# Altium schematic symbol library zxevo_c2.SchLib: 76 symbols (part 2 of 2)
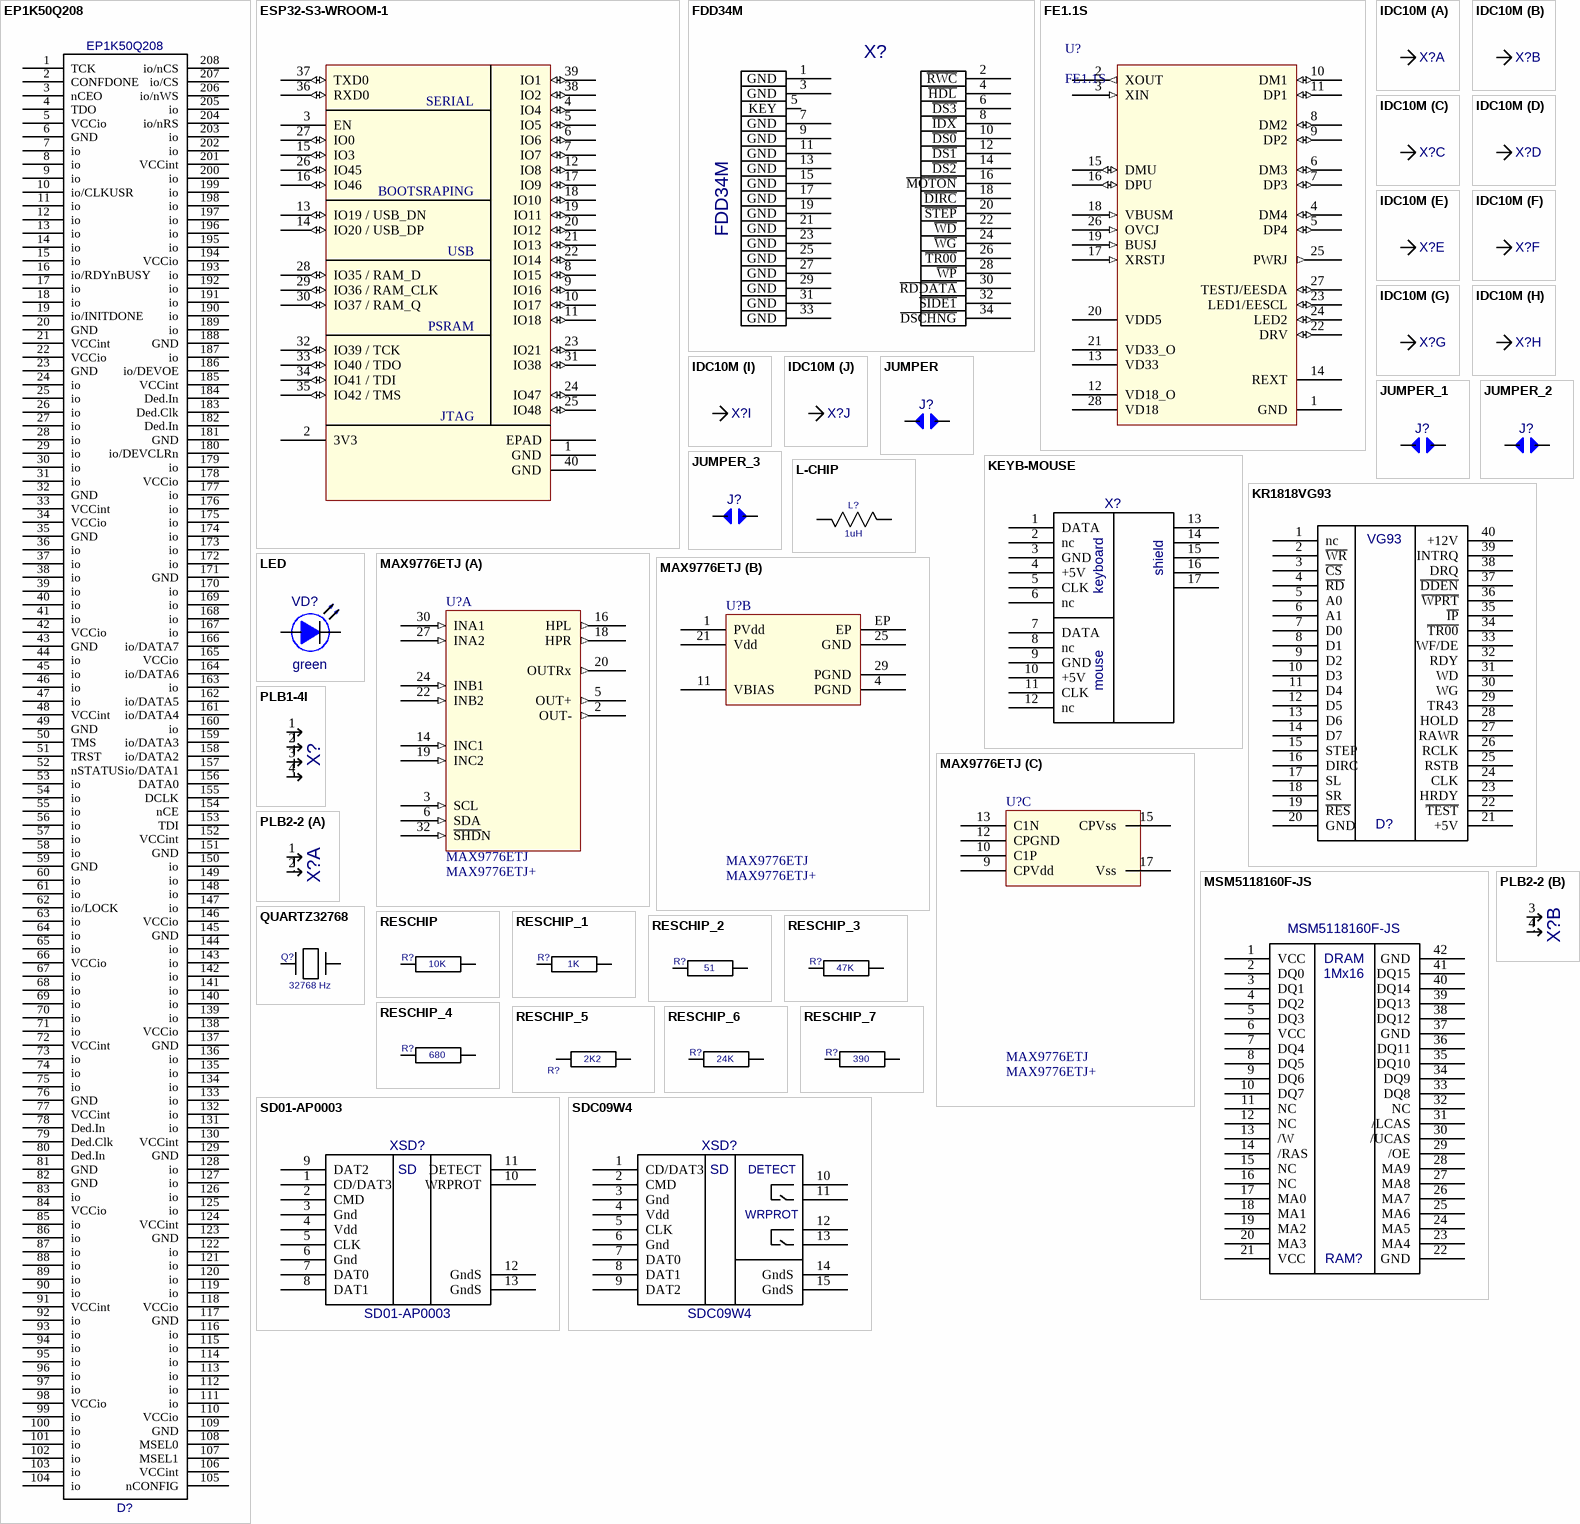
[diagram p4: symbols EP1K50Q208 to SDC09W4]

## FE1.1S
designator U?
USB 2.0 HIGH SPEED 4-PORT HUB CONTROLLER; Manufacturer: Terminus Technology Inc; ComponentLink1Description: Datasheet; ComponentLink1URL: http://www.ibselectronics.com/ibsstore/datasheet/FE1.1s%20(B)%20Data%20Sheet%200.7.pdf; PACKAGE: 28-pin SSOP (Body Size: 10x4 mm, Pitch: 0.64mm)
footprint TSOP64P600X160-28L (TSOP, 28-Leads, Body 9,90x3,90mm, Pitch 0,64mm, IPC High Density)
pins: 1 GND (power) "Ground", 2 XOUT (out) "12 MHz Crystal Oscillator output", 3 XIN (in) "12 MHz Crystal Oscillator input.", 4 DM4 (io) "The D- pin of the 4th Downstream Facing Port.", 5 DP4 (io) "The D+ pin of the 4th Downstream Facing Port", 6 DM3 (io) "The D- pin of the 3rd Downstream Facing Port.", 7 DP3 (io) "The D+ pin of the 3rd Downstream Facing Port.", 8 DM2 (io) "The D- pin of the 2nd Downstream Facing Port.", 9 DP2 (io) "The D+ pin of the 2nd Downstream Facing Port.", 10 DM1 (io) "The D- pin of the 1st Downstream Facing Port.", 11 DP1 (io) "The D+ pin of the 1st Downstream Facing Port.", 12 VD18_O (power) "1.8V power output from 3.3V→1.8V integrated regulator – a 10μF decoupling capacitor is required.", 13 VD33 (power) "3.3V power input for 3.3V→1.8V integrated regulator.", 14 REXT (power) "A 2.7KΩ (± 1%) resister should be connected to VSS to provide internal bias reference.", 15 DMU (io) "The D- pin of the Upstream Facing Port.", 16 DPU (io) "The D+ pin of the Upstream Facing Port.", 17 XRSTJ (in) "External Reset, active low, is an optional source of chip reset signal, beside the build-in Power-On-Reset. The minimum low pulse width is 10 μs.", 18 VBUSM (in) "The VBUS Monitor of upstream facing port.", 19 BUSJ (in) "Bus power indicator: 0 – Bus Powered; 1 – Self Powered.", 20 VDD5 (power) "5V power input for integrated 5V→3.3V regulator.", 21 VD33_O (power) "3.3V power output from 5V→3.3V integrated regulator – a 10μF decoupling capacitor is required.", 22 DRV (io) "LED Drive Control", 23 LED1/EESCL (io) "Port 1 and Port 3 Enabled Indicator (LED) Control, and external Serial EEPROM Clock", 24 LED2 (io) "Port 2 and Port 4 Enabled Indicator (LED) Control", 25 PWRJ (out) "Downstream Device Power Enable, active low, for Ganged Power Switching.", 26 OVCJ (in) "Over Current Indicator, active low, for Global Over-Current", 27 TESTJ/EESDA (io) "Test Mode Enable, active low with internal pull-up, and external Serial EEPROM Data/Address.", 28 VD18 (power) "1.8V power input."

## IDC10M
designator X?  (value not drawn)
Value: *
footprint IDC10M
part A pins: 1
part B pins: 2
part C pins: 3
part D pins: 4
part E pins: 5
part F pins: 6
part G pins: 7
part H pins: 8
part I pins: 9
part J pins: 10

## JUMPER
designator J?  (value not drawn)
Hard Reset Key; Value: *
footprint JUMPER
pins: 0 1, 1 2

## JUMPER_1
designator J?, comment JUMPER  (value not drawn)
HLT->~IP
footprint JUMPER
pins: 0 1, 1 2

## JUMPER_2
designator J?, comment JUMPER  (value not drawn)
12V enabled; Value: *
footprint JUMPER
pins: 0 1, 1 2

## JUMPER_3
designator J?, comment JUMPER  (value not drawn)
Soft Reset Key
footprint JUMPER
pins: 0 1, 1 2

## KEYB-MOUSE
designator X?  (value not drawn)
Value: *
footprint MDD-6FR
pins: 1 DATA, 2 nc, 3 GND, 4 +5V, 5 CLK, 6 nc, 7 DATA, 8 nc, 9 GND, 10 +5V, 11 CLK, 12 nc, 13 shield, 14 shield, 15 shield, 16 shield, 17 shield
text: keyboard; mouse

## KR1818VG93
designator D?  (value not drawn)
Value: *
footprint DIP40
pins: 1 nc, 2 ~{WR}, 3 ~{CS}, 4 ~{RD}, 5 A0, 6 A1, 7 D0, 8 D1, 9 D2, 10 D3, 11 D4, 12 D5, 13 D6, 14 D7, 15 STEP, 16 DIRC, 17 SL, 18 SR, 19 ~{RES}, 20 GND, 21 +5V, 22 ~{TEST}, 23 HRDY, 24 CLK, 25 RSTB, 26 RCLK, 27 RAWR, 28 HOLD, 29 TR43, 30 WG, 31 WD, 32 RDY, 33 WF/DE, 34 ~{TR00}, 35 ~{IP}, 36 ~{WPRT}, 37 ~{DDEN}, 38 DRQ, 39 INTRQ, 40 +12V
text: VG93

## L-CHIP
designator L?  value 1uH  (hidden comment: L-CHIP)
footprint L-CHIP
pins: 1, 2

## LED
designator VD?  value green  (hidden comment: LED)
Light Emitting Diode
footprint LED100
pins: A, K

## MAX9776ETJ
designator U?  Supplier Part Number 1: MAX9776ETJ+
Audio Amp Headphone/Receiver/Speaker 1-CH Mono/2-CH Stereo 1.5W Class-D 32-Pin TQFN EP; Manufacturer: Maxim; Voltage Gain: 12dB; Min Dual Supply Voltage: 2.7V; Max Dual Supply Voltage: 5.5V; Power Supply Rejection Ratio (PSRR): 80dB; Common Mode Rejection Ratio: 45dB; Max Power Dissipation: 1.36W; Nominal Supply Current: 9.5mA; Dual Supply Voltage: 5V; Supply Type: Triple; Gain Bandwidth Product: 20kHz; Manufacturer Part Number: MAX9776ETJ+; RoHS: Yes; Category: Amplifiers - Audio; Stock 1: 240; Mount: Surface Mount; Number of Pins: 32; Min Operating Temperature: -40°C; Max Operating Temperature: 85°C; Packaging: Rail/Tube; Max Output Power: 1.5W; Package Quantity: 1; Logic Function: Receiver; Features: I²C; Output Power: 1.5W; Max Supply Voltage: 5.5V; Min Supply Voltage: 2.7V; Series: DirectDrive®; Supply Current: 9.5mA; Length: 5.1mm; Width: 5.1mm; Height: 0.75mm; Radiation Hardening: No; RoHS Compliant: Yes; ComponentLink1URL: https://datasheet.ciiva.com/1790/max9775-max9776-1790309.pdf?src-supplier=Digi-Key; ComponentLink1Description: https://datasheet.ciiva.com/1790/max9775-max9776-1790309.pdf?src-supplier=Digi-Key; ComponentLink2URL: https://datasheet.ciiva.com/17309/max9775-max9776-17309659.pdf?src-supplier=Avnet+Europe; ComponentLink2Description: https://datasheet.ciiva.com/17309/max9775-max9776-17309659.pdf?src-supplier=Avnet+Europe; ComponentLink3URL: https://datasheet.ciiva.com/2967/max9775-max9776-2967997.pdf?src-supplier=Avnet; ComponentLink3Description: https://datasheet.ciiva.com/2967/max9775-max9776-2967997.pdf?src-supplier=Avnet
footprint QFN50P500X500X75_HS-33M (QFN, 32-Leads, Body 5,00x5,00mm, Pitch 0,50mm, Thermal Pad 3,10x3,10mm, IPC Low Density)
part A pins: 2 OUT- (out) "Negative Left-Speaker Output", 3 SCL (in) "Serial Clock Input. Connect a 1kΩ pullup resistor from SCL to VDD.", 5 OUT+ (out) "Positive Left-Speaker Output", 6 SDA (in) "Serial Data Input. Connect a 1kΩ pullup resistor from SDA to VDD.", 7 I.C. hidden "Internal Connection. Leave unconnected. This pin is internally connected to the signal path.", 8 I.C. hidden "Internal Connection. Leave unconnected. This pin is internally connected to the signal path.", 14 INC1 (in) "Input C1. Left input or positive input", 16 HPL (out) "Left Headphone Output", 18 HPR (out) "Right Headphone Output", 19 INC2 (in) "Input C2. Right input or negative input", 20 OUTRx (out) "Mono Receiver Output", 22 INB2 (in) "Input B2. Right input or negative input", 23 I.C. hidden "Internal Connection. Leave unconnected. This pin is internally connected to the signal path.", 24 INB1 (in) "Input B1. Left input or positive input", 26 I.C. hidden "Internal Connection. Leave unconnected. This pin is internally connected to the signal path.", 27 INA2 (in) "Input A2. Right input or negative input", 28 I.C. hidden "Internal Connection. Leave unconnected. This pin is internally connected to the signal path.", 30 INA1 (in) "Input A1. Left input or positive input", 31 I.C. hidden "Internal Connection. Leave unconnected. This pin is internally connected to the signal path.", 32 ~{SHD}N (in) "Active-Low Hardware Shutdown"
part B pins: 1 PVdd (power) "Class D Power Supply", 4 PGND (power) "Power Ground", 11 VBIAS (power) "Common-Mode Bias", 21 Vdd (power) "Analog Power Supply", 25 GND (power) "Analog Ground", 29 PGND (power) "Power Ground", EP (power) "Exposed Pad. The external pad lowers the package’s thermal impedance by providing a direct heat conduction path from the die to the PCB. The exposed pad is internally connected to GND. Connect the exposed thermal pad to the GND plane."
part C pins: 9 CPVdd (power) "Charge-Pump Power Supply", 10 C1P (power) "Charge-Pump Flying Capacitor Positive Terminal", 12 CPGND (power) "Charge-Pump GND", 13 C1N (power) "Charge-Pump Flying Capacitor Negative Terminal", 15 CPVss (power) "Charge-Pump Output. Connect to VSS.", 17 Vss (power) "Headphone Amplifier Negative Power Supply. Connect to CPVSS."

## MSM5118160F-JS
designator RAM?
Value: *
footprint SOJ42
pins: 1 VCC, 2 DQ0, 3 DQ1, 4 DQ2, 5 DQ3, 6 VCC, 7 DQ4, 8 DQ5, 9 DQ6, 10 DQ7, 11 NC, 12 NC, 13 /W, 14 /RAS, 15 NC, 16 NC, 17 MA0, 18 MA1, 19 MA2, 20 MA3, 21 VCC, 22 GND, 23 MA4, 24 MA5, 25 MA6, 26 MA7, 27 MA8, 28 MA9, 29 /OE, 30 /UCAS, 31 /LCAS, 32 NC, 33 DQ8, 34 DQ9, 35 DQ10, 36 DQ11, 37 GND, 38 DQ12, 39 DQ13, 40 DQ14, 41 DQ15, 42 GND
text: DRAM; 1Mx16

## PLB1-4I
designator X?  (value not drawn)
Value: *
footprint PLB1-4I
pins: 1 I/O1, 2 I/O2, 3 I/O3, 4 I/O4

## PLB2-2
designator X?  (value not drawn)
Value: *
footprint PLB2-2
part A pins: 1, 2
part B pins: 3 1, 4 2

## QUARTZ32768
designator Q?  value 32768 Hz  (hidden comment: QUARTZ32768)
footprint 32768
pins: 1, 2, 3 GND (power) hidden to GND

## RESCHIP
designator R?  value 10K  (hidden comment: RESCHIP)
footprint R-CHIP
pins: 1 i/o, 2 i/o1

## RESCHIP_1
designator R?, comment value 1K  (hidden comment: RESCHIP)
footprint R-CHIP
pins: 1 i/o, 2 i/o1

## RESCHIP_2
designator R?, comment value 51  (hidden comment: RESCHIP)
footprint R-CHIP
pins: 1 i/o, 2 i/o1

## RESCHIP_3
designator R?, comment value 47K  (hidden comment: RESCHIP)
footprint R-CHIP
pins: 1 i/o, 2 i/o1

## RESCHIP_4
designator R?, comment value 680  (hidden comment: RESCHIP)
footprint R-CHIP
pins: 1 i/o, 2 i/o1

## RESCHIP_5
designator R?, comment value 2K2  (hidden comment: RESCHIP)
footprint R-CHIP
pins: 1 i/o, 2 i/o1

## RESCHIP_6
designator R?, comment value 24K  (hidden comment: RESCHIP)
footprint R-CHIP
pins: 1 i/o, 2 i/o1

## RESCHIP_7
designator R?, comment value 390  (hidden comment: RESCHIP)
footprint R-CHIP
pins: 1 i/o, 2 i/o1

## SD01-AP0003
designator XSD?
Value: *
footprint SD01-AP0003
pins: 1 CD/DAT3, 2 CMD, 3 Gnd, 4 Vdd, 5 CLK, 6 Gnd, 7 DAT0, 8 DAT1, 9 DAT2, 10 WRPROT, 11 DETECT, 12 GndS, 13 GndS, 14 hidden, 15 hidden
text: SD

## SDC09W4
designator XSD?
Value: *
footprint SDC09W4
pins: 1 CD/DAT3, 2 CMD, 3 Gnd, 4 Vdd, 5 CLK, 6 Gnd, 7 DAT0, 8 DAT1, 9 DAT2, 10 DETECT, 11 DETECT, 12 WRPROT, 13 WRPROT, 14 GndS, 15 GndS
text: SD

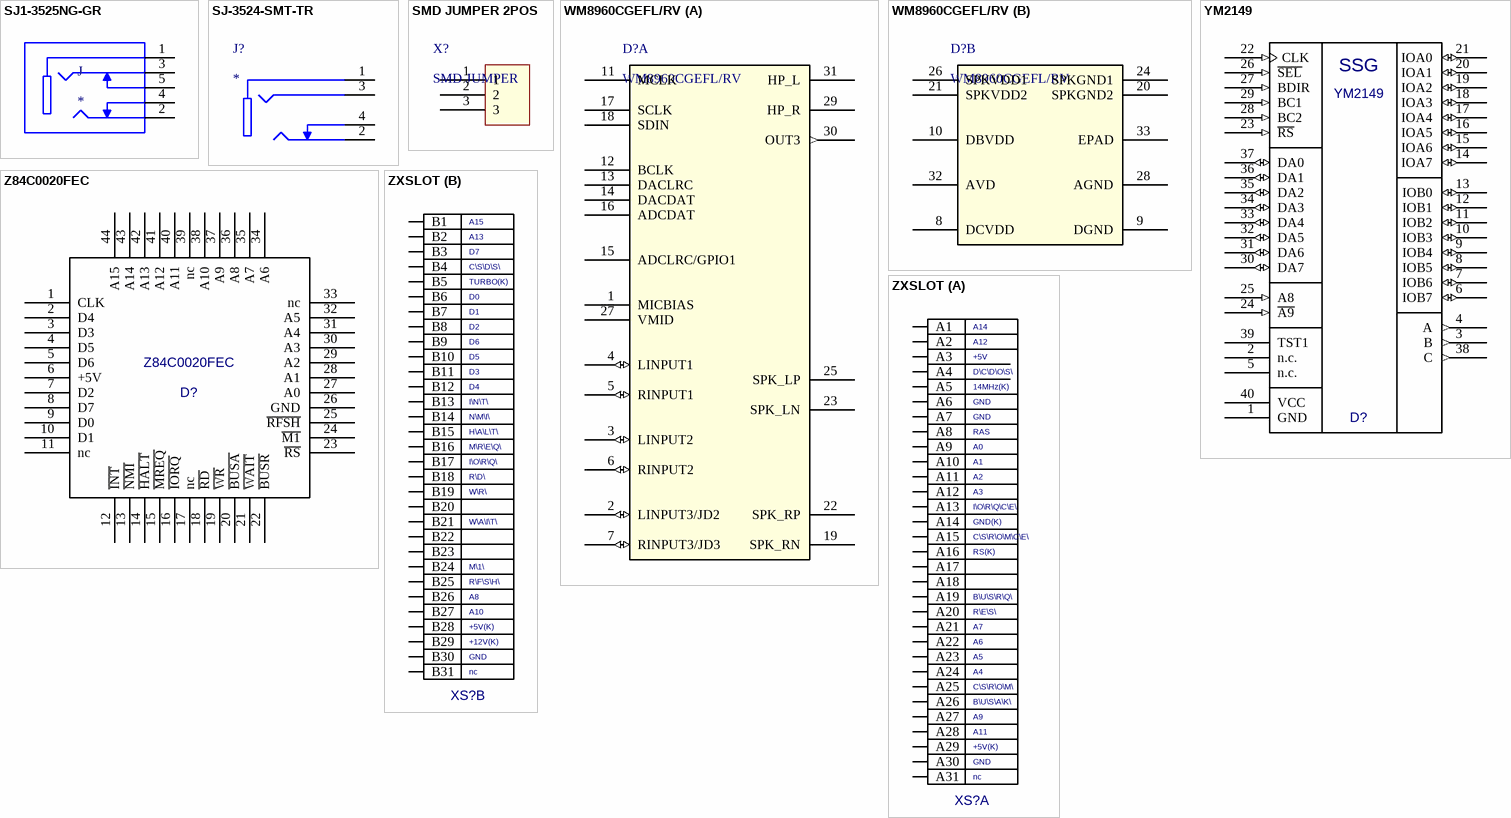
[diagram p3: symbols SJ1-3525NG-GR to ZXSLOT]

## SJ1-3525NG-GR
designator J
3.5 mm, Stereo, Right Angle, Through Hole, Isolated Ground, Audio Jack Connector; MP: SJ1-3525NG-GR; MF: CUI Devices; SnapEDA_Link: https://www.snapeda.com/parts/SJ1-3525NG-GR/CUI%20Devices/view-part/453893/?ref=snap; CUI_purchase_URL: https://www.cuidevices.com/product/interconnect/connectors/audio-connectors/jacks/sj1-352xng-series?utm_source=snapeda.com&utm_medium=referral&utm_campaign=snapedaBOM; Availability: Unavailable; Price: None; Package: None; Value: *
footprint CUI_SJ1-3525NG-GR
pins: 1, 2, 3, 4, 5

## SJ-3524-SMT-TR
designator J?
Connector; Manufacturer_Name: CUI Inc.; Manufacturer_Part_Number: SJ-3524-SMT-TR; Datasheet Link: https://datasheet.datasheetarchive.com/originals/distributors/Datasheets-DGA1/151896.pdf; Mouser Part Number: 490-SJ-3524-SMT-TR; Mouser Price/Stock: https://www.mouser.co.uk/ProductDetail/CUI-Devices/SJ-3524-SMT-TR?qs=WyjlAZoYn50%252B7OcNbxvx%252BA%3D%3D; Arrow Part Number: SJ-3524-SMT-TR; Arrow Price/Stock: https://www.arrow.com/en/products/sj-3524-smt-tr/cui-devices
footprint SJ-3524-SMT-TR
pins: 1, 2, 3, 4

## SMD JUMPER 2POS
designator X?, comment SMD JUMPER  (no BOM)
footprint SMD JUMPER 3 pin
pins: 1, 2, 3

## WM8960CGEFL/RV
designator D?
Stereo CODEC with 1W Stereo Class-D speaker Drivers; SourceLibrary: Cirrus_Logic_2020-09-15; Vendor: Cirrus Logic; Built_By: EMA_Matt; Type: DEV; Manufacturer_Part_Number: WM8960CGEFL/RV; Copyright: Copyright (C) 2018 Accelerated Designs. All rights reserved; Datasheet: https://statics.cirrus.com/pubs/proDatasheet/WM8960_v4.4.pdf; RefDes: RefDes
footprint QFN50P500X500X90_HS-33M (QFN, 32-Leads, Body 5,00x5,00mm, Pitch 0,50mm, Thermal Pad 3,45x3,45mm, IPC Low Density)
part A pins: 1 MICBIAS, 2 LINPUT3/JD2 (io), 3 LINPUT2 (io), 4 LINPUT1 (io), 5 RINPUT1 (io), 6 RINPUT2 (io), 7 RINPUT3/JD3 (io), 11 MCLK, 12 BCLK, 13 DACLRC, 14 DACDAT, 15 ADCLRC/GPIO1, 16 ADCDAT, 17 SCLK, 18 SDIN, 19 SPK_RN, 22 SPK_RP, 23 SPK_LN, 25 SPK_LP, 27 VMID, 29 HP_R, 30 OUT3 (out), 31 HP_L
part B pins: 8 DCVDD (power), 9 DGND, 10 DBVDD (power), 20 SPKGND2, 21 SPKVDD2 (power), 24 SPKGND1, 26 SPKVDD1 (power), 28 AGND, 32 AVD, 33 EPAD

## YM2149
designator D?
Value: *
footprint DIP40
pins: 1 GND (power), 2 n.c., 3 B (out), 4 A (out), 5 n.c., 6 IOB7 (io), 7 IOB6 (io), 8 IOB5 (io), 9 IOB4 (io), 10 IOB3 (io), 11 IOB2 (io), 12 IOB1 (io), 13 IOB0 (io), 14 IOA7 (io), 15 IOA6 (io), 16 IOA5 (io), 17 IOA4 (io), 18 IOA3 (io), 19 IOA2 (io), 20 IOA1 (io), 21 IOA0 (io), 22 CLK (in), 23 ~{RS} (in), 24 ~{A9} (in), 25 A8 (in), 26 ~{SEL} (in), 27 BDIR (in), 28 BC2 (in), 29 BC1 (in), 30 DA7 (io), 31 DA6 (io), 32 DA5 (io), 33 DA4 (io), 34 DA3 (io), 35 DA2 (io), 36 DA1 (io), 37 DA0 (io), 38 C (out), 39 TST1, 40 VCC (power)
text: SSG

## Z84C0020FEC
designator D?
Value: *
footprint QFP44X8
pins: 1 CLK, 2 D4, 3 D3, 4 D5, 5 D6, 6 +5V, 7 D2, 8 D7, 9 D0, 10 D1, 11 nc, 12 ~{INT}, 13 ~{NMI}, 14 ~{HALT}, 15 ~{MREQ}, 16 ~{IORQ}, 17 nc, 18 ~{RD}, 19 ~{WR}, 20 ~{BUSA}, 21 ~{WAIT}, 22 ~{BUSR}, 23 ~{RS}, 24 ~{M1}, 25 ~{RFSH}, 26 GND, 27 A0, 28 A1, 29 A2, 30 A3, 31 A4, 32 A5, 33 nc, 34 A6, 35 A7, 36 A8, 37 A9, 38 A10, 39 nc, 40 A11, 41 A12, 42 A13, 43 A14, 44 A15

## ZXSLOT
designator XS?  (value not drawn)
Value: *
footprint SLOT62
part A pins: A1, A2, A3, A4, A5, A6, A7, A8, A9, A10, A11, A12, A13, A14, A15, A16, A17, A18, A19, A20, A21, A22, A23, A24, A25, A26, A27, A28, A29, A30, A31
part B pins: B1, B2, B3, B4, B5, B6, B7, B8, B9, B10, B11, B12, B13, B14, B15, B16, B17, B18, B19, B20, B21, B22, B23, B24, B25, B26, B27, B28, B29, B30, B31
part A text: +5V; D\C\D\O\S\; 14MHz(K); GND; RAS; A0; I\O\R\Q\C\E\; GND(K); C\S\R\O\M\C\E\; RS(K); B\U\S\R\Q\; R\E\S\; C\S\R\O\M\; B\U\S\A\K\; +5V(K); nc
part B text: D7; C\S\D\S\; TURBO(K); D0; D1; D2; D6; D5; D3; D4; I\N\T\; N\M\I\; H\A\L\T\; M\R\E\Q\; I\O\R\Q\; R\D\; W\R\; W\A\I\T\; M\1\; R\F\S\H\; +5V(K); +12V(K); GND; nc